# EAGLE library part LQ035Q7DH06-FLH-CONNECTOR (library Traficon)
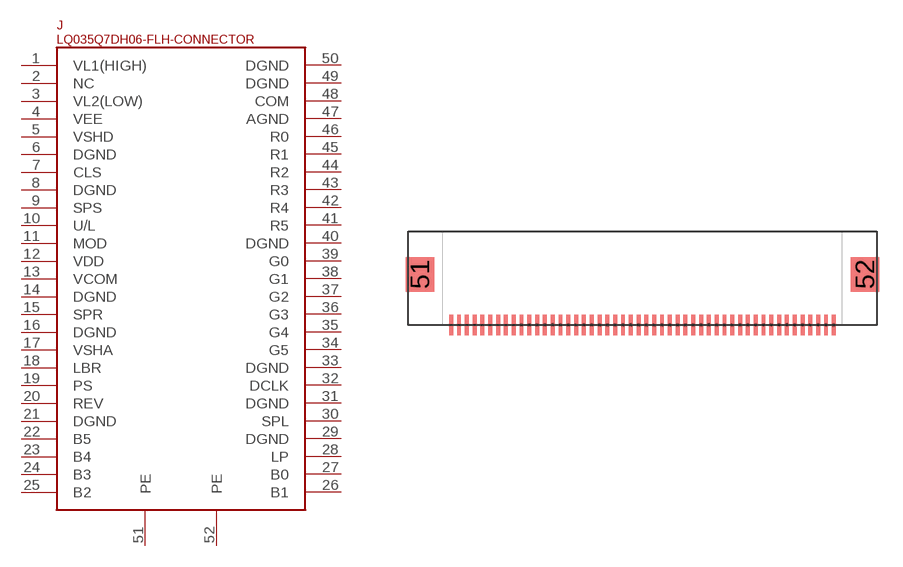
[diagram p187: symbol with the pads of HIROSE-FH12-50; footprint HIROSE-FH12-50]

Designator prefix J

## LQ035Q7DH06-FLH-CONNECTOR  [HIROSE-FH12-50]
1  VL1(HIGH)  in
2  NC  nc
3  VL2(LOW)  in
4  VEE  pwr
5  VSHD  pwr
6  DGND  pwr
7  CLS  in
8  DGND  pwr
9  SPS  in
10  U/L  in
11  MOD  in
12  VDD
13  VCOM  in
14  DGND  pwr
15  SPR
16  DGND  pwr
17  VSHA  pwr
18  LBR  in
19  PS  in
20  REV  in
21  DGND  pwr
22  B5  in
23  B4  in
24  B3  in
25  B2  in
26  B1  in
27  B0  in
28  LP  in
29  DGND  pwr
30  SPL
31  DGND  pwr
32  DCLK  in
33  DGND  pwr
34  G5  in
35  G4  in
36  G3  in
37  G2  in
38  G1  in
39  G0  in
40  DGND  pwr
41  R5  in
42  R4  in
43  R3  in
44  R2  in
45  R1  in
46  R0  in
47  AGND  pwr
48  COM  out
49  DGND  pwr
50  DGND  pwr
51  PE
52  PE

## Footprint HIROSE-FH12-50 (pad centres in mm)
smd 0.25 x 1.3: 1 -12.25,0; 2 -11.75,0; 3 -11.25,0; 4 -10.75,0; 5 -10.25,0; 6 -9.75,0; 7 -9.25,0; 8 -8.75,0; 9 -8.25,0; 10 -7.75,0; 11 -7.25,0; 12 -6.75,0; 13 -6.25,0; 14 -5.75,0; 15 -5.25,0; 16 -4.75,0; 17 -4.25,0; 18 -3.75,0; 19 -3.25,0; 20 -2.75,0; 21 -2.25,0; 22 -1.75,0; 23 -1.25,0; 24 -0.75,0; 25 -0.25,0; 26 0.25,0; 27 0.75,0; 28 1.25,0; 29 1.75,0; 30 2.25,0; 31 2.75,0; 32 3.25,0; 33 3.75,0; 34 4.25,0; 35 4.75,0; 36 5.25,0; 37 5.75,0; 38 6.25,0; 39 6.75,0; 40 7.25,0; 41 7.75,0; 42 8.25,0; 43 8.75,0; 44 9.25,0; 45 9.75,0; 46 10.25,0; 47 10.75,0; 48 11.25,0; 49 11.75,0; 50 12.25,0
smd 1.8 x 2.2: 51 -14.25,3.25; 52 14.25,3.25